# Altium integrated library ERJ3EKF7681V.IntLib: 1 symbol
Pins are listed as number, name and electrical type; pins without a type are passive.

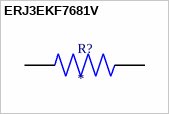
[diagram p0: symbol ERJ3EKF7681V]

## ERJ3EKF7681V
designator R?
Res Thick Film 1.6 x 0.8 mm 7.68K Ohm 1% 0.1W(1/10W) 100ppm/ C Molded SMD Punched Carrier T/R; MF: Panasonic; MP: ERJ3EKF7681V; SnapEDA_Link: https://www.snapeda.com/parts/ERJ3EKF7681V/Panasonic/view-part/?ref=snap; Package: 1608-2 Panasonic; Value: *; Check_prices: https://www.snapeda.com/parts/ERJ3EKF7681V/Panasonic/view-part/?ref=eda
footprint RES_ERJ3EKF7681V
pins: 1, 2